# EAGLE library part WS2801 (library PP_DigitalIC)
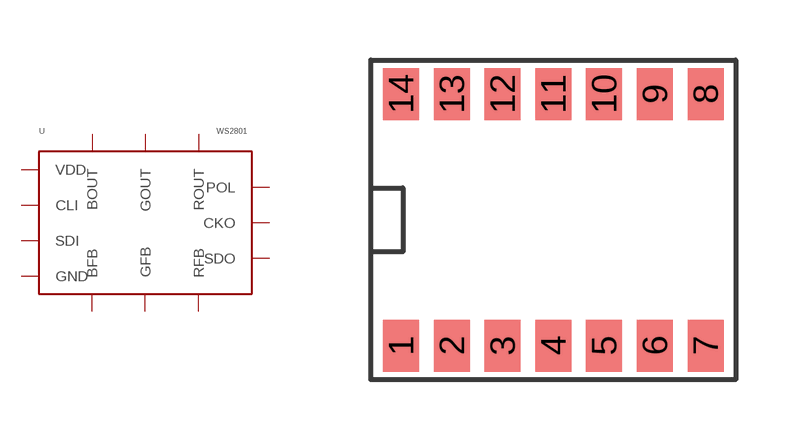
[diagram p20: symbol with the pads of SOP-14; footprint SOP-14]

Designator prefix U

## WS2801SOP-14  [SOP-14]
1  CLI
2  SDI
3  POL
4  RFB
5  GFB
6  BFB
7  GND
8  BOUT
9  GOUT
10  ROUT
12  SDO
13  CKO
14  VDD

## Footprint SOP-14 (pad centres in mm)
smd 0.9 x 1.3: 1 -3.81,-3.15; 2 -2.54,-3.15; 3 -1.27,-3.15; 4 0,-3.15; 5 1.27,-3.15; 6 2.54,-3.15; 7 3.81,-3.15; 8 3.81,3.15; 9 2.54,3.15; 10 1.27,3.15; 11 0,3.15; 12 -1.27,3.15; 13 -2.54,3.15; 14 -3.81,3.15